# Altium schematic symbol library Passive.SchLib: 38 symbols
Pins are listed as number, name and electrical type; pins without a type are passive.

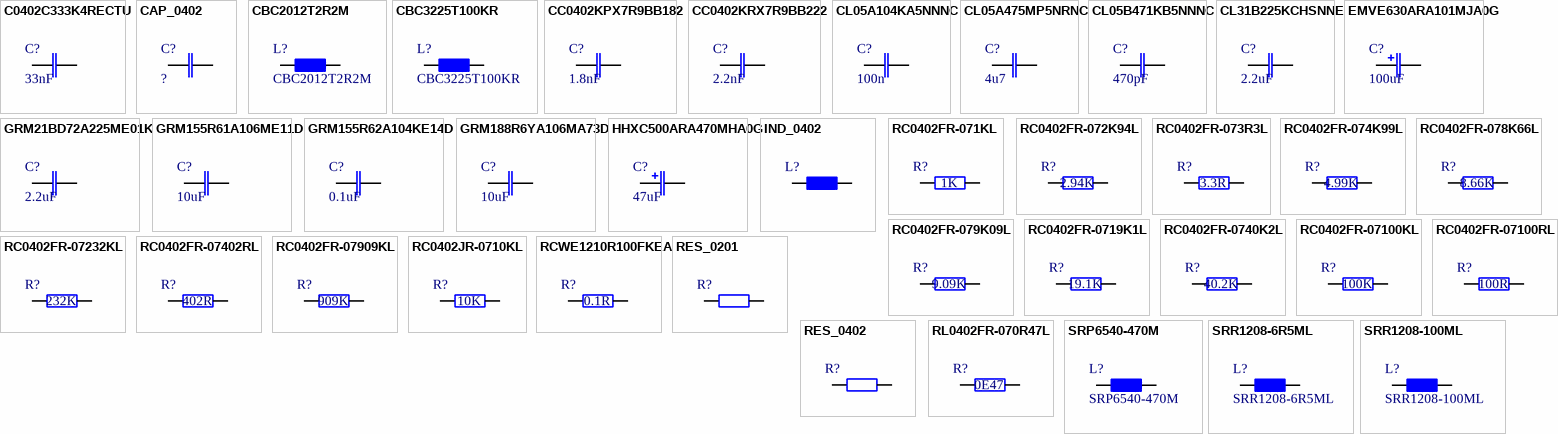
[diagram p0: symbols C0402C333K4RECTU to SRR1208-100ML]

## C0402C333K4RECTU
designator C?, comment 33nF
MPN: C0402C333K4RECTU; MaxVoltage: 16; Value: 33nF
footprint CAP0402 (Chip Capacitor, 2-Leads, Body 1.00x0.50mm, IPC Medium Density)
pins: 1, 2

## CAP_0402
designator C?, comment ?
Value: ?
footprint CAP0402 (Chip Capacitor, 2-Leads, Body 1.00x0.50mm, IPC Medium Density)
pins: 1, 2

## CBC2012T2R2M
designator L?
Value: CBC2012T2R2M; MPN: CBC2012T2R2M
footprint INDC0805 (Chip Inductor, 2-Leads, Body 2.00x1.25mm, IPC Medium Density, CBC2012T2R2M)
pins: 1, 2

## CBC3225T100KR
designator L?
10 µH Halbgeschirmt Trommelkern, drahtgewickelt Induktor 900 mA 172,9mOhm max. 1210 (3225 metrisch); Value: 10uH
footprint IND1210 (Chip Inductor, 2-Leads, Body 3.20x2.50mm, IPC Medium Density)
pins: 1, 2

## CC0402KPX7R9BB182
designator C?, comment 1.8nF
MPN: CC0402KPX7R9BB182; MaxVoltage: 50V; Value: 1.8nF
footprint CAP0402 (Chip Capacitor, 2-Leads, Body 1.00x0.50mm, IPC Medium Density)
pins: 1, 2

## CC0402KRX7R9BB222
designator C?, comment 2.2nF
MPN: CC0402KRX7R9BB222; MaxVoltage: 50V; Value: 2.2nF
footprint CAP0402 (Chip Capacitor, 2-Leads, Body 1.00x0.50mm, IPC Medium Density)
pins: 1, 2

## CL05A104KA5NNNC
designator C?, comment 100n
MPN: CL05A104KA5NNNC; MaxVoltage: 25V; Dialectric: X5R; Tolerance: 10%; Value: 100n
footprint CAP0402 (Chip Capacitor, 2-Leads, Body 1.00x0.50mm, IPC Medium Density)
pins: 1, 2

## CL05A475MP5NRNC
designator C?, comment 4u7
MPN: CL05A475MP5NRNC; MaxVoltage: 10V; Dialectric: X5R; Tolerance: 20%; Value: 4u7
footprint CAP0402 (Chip Capacitor, 2-Leads, Body 1.00x0.50mm, IPC Medium Density)
pins: 1, 2

## CL05B471KB5NNNC
designator C?, comment 470pF
MPN: CL05B471KB5NNNC; MaxVoltage: 50V; Value: 470pF
footprint CAP0402 (Chip Capacitor, 2-Leads, Body 1.00x0.50mm, IPC Medium Density)
pins: 1, 2

## CL31B225KCHSNNE
designator C?, comment 2.2uF
MPN: CL31B225KCHSNNE; MaxVoltage: 100V; Value: 2.2uF
footprint CAP1206 (Chip Capacitor, 2-Leads, Body 3.20x1.60mm, IPC Medium Density)
pins: 1, 2

## EMVE630ARA101MJA0G
designator C?, comment 100uF
MPN: EMVE630ARA101MJA0G; MaxVoltage: 63V; Value: 100uF
footprint CHEMICON_D10H10_JA0
pins: 1, 2

## GRM21BD72A225ME01K
designator C?, comment 2.2uF
0805; MPN: GRM21BD72A225ME01K; MaxVoltage: 100V; Value: 2.2uF
footprint CAP0805 (Chip Capacitor, 2-Leads, Body 2.00x1.25mm, IPC Medium Density)
pins: 1, 2

## GRM155R61A106ME11D
designator C?, comment 10uF
MPN: CC0402KRX7R9BB222; MaxVoltage: 50V; Value: 10uF
footprint CAP0402 (Chip Capacitor, 2-Leads, Body 1.00x0.50mm, IPC Medium Density)
pins: 1, 2

## GRM155R62A104KE14D
designator C?, comment 0.1uF
0805; MPN: GRM155R62A104KE14D; MaxVoltage: 100V; Value: 0.1uF
footprint CAP0402 (Chip Capacitor, 2-Leads, Body 1.00x0.50mm, IPC Medium Density)
pins: 1, 2

## GRM188R6YA106MA73D
designator C?, comment 10uF
MPN: CL05A475MP5NRNC; MaxVoltage: 10V; Dialectric: X5R; Tolerance: 20%; Value: 10uF
footprint CAP0603 (Chip Capacitor, 2-Leads, Body 1.60x0.80mm, IPC Medium Density)
pins: 1, 2

## HHXC500ARA470MHA0G
designator C?, comment 47uF
MPN: HHXC500ARA470MHA0G; MaxVoltage: 50V; Value: 47uF
footprint CHEMICON_KOND_D8H10
pins: 1, 2

## IND_0402
designator L?
footprint IND0402 (Chip Inductor, 2-Leads, Body 1.00x0.50mm, IPC Medium Density)
pins: 1, 2

## RC0402FR-071KL
designator R?  (value not drawn)
Value: 1K
footprint RES0402 (Chip Resistor, 2-Leads, Body 1.00x0.50mm, IPC Medium Density)
pins: 1, 2

## RC0402FR-072K94L
designator R?  (value not drawn)
Value: 2.94K
footprint RES0402 (Chip Resistor, 2-Leads, Body 1.00x0.50mm, IPC Medium Density)
pins: 1, 2

## RC0402FR-073R3L
designator R?  (value not drawn)
Value: 3.3R
footprint RES0402 (Chip Resistor, 2-Leads, Body 1.00x0.50mm, IPC Medium Density)
pins: 1, 2

## RC0402FR-074K99L
designator R?  (value not drawn)
Value: 4.99K
footprint RES0402 (Chip Resistor, 2-Leads, Body 1.00x0.50mm, IPC Medium Density)
pins: 1, 2

## RC0402FR-078K66L
designator R?  (value not drawn)
Value: 8.66K
footprint RES0402 (Chip Resistor, 2-Leads, Body 1.00x0.50mm, IPC Medium Density)
pins: 1, 2

## RC0402FR-079K09L
designator R?  (value not drawn)
Value: 9.09K
footprint RES0402 (Chip Resistor, 2-Leads, Body 1.00x0.50mm, IPC Medium Density)
pins: 1, 2

## RC0402FR-0719K1L
designator R?  (value not drawn)
Value: 19.1K
footprint RES0402 (Chip Resistor, 2-Leads, Body 1.00x0.50mm, IPC Medium Density)
pins: 1, 2

## RC0402FR-0740K2L
designator R?  (value not drawn)
Value: 40.2K
footprint RES0402 (Chip Resistor, 2-Leads, Body 1.00x0.50mm, IPC Medium Density)
pins: 1, 2

## RC0402FR-07100KL
designator R?  (value not drawn)
Value: 100K
footprint RES0402 (Chip Resistor, 2-Leads, Body 1.00x0.50mm, IPC Medium Density)
pins: 1, 2

## RC0402FR-07100RL
designator R?  (value not drawn)
Value: 100R
footprint RES0402 (Chip Resistor, 2-Leads, Body 1.00x0.50mm, IPC Medium Density)
pins: 1, 2

## RC0402FR-07232KL
designator R?  (value not drawn)
Value: 232K
footprint RES0402 (Chip Resistor, 2-Leads, Body 1.00x0.50mm, IPC Medium Density)
pins: 1, 2

## RC0402FR-07402RL
designator R?  (value not drawn)
Value: 402R
footprint RES0402 (Chip Resistor, 2-Leads, Body 1.00x0.50mm, IPC Medium Density)
pins: 1, 2

## RC0402FR-07909KL
designator R?  (value not drawn)
Value: 909K
footprint RES0402 (Chip Resistor, 2-Leads, Body 1.00x0.50mm, IPC Medium Density)
pins: 1, 2

## RC0402JR-0710KL
designator R?, comment 10K  (value not drawn)
MPN: RC0402JR-0710KL; Power: 0.063W; Tolerance: 5%; Value: 10K
footprint RES0402 (Chip Resistor, 2-Leads, Body 1.00x0.50mm, IPC Medium Density)
pins: 1, 2

## RCWE1210R100FKEA
designator R?  (value not drawn)
Value: 0.1R
footprint RES1210 (Chip Resistor, 2-Leads, Body 3.10x2.50mm, IPC Medium Density)
pins: 1, 2

## RES_0201
designator R?
footprint RES0201 (Chip Resistor, 2-Leads, Body 0.60x0.30mm, IPC Medium Density)
pins: 1, 2

## RES_0402
designator R?
footprint RES0402 (Chip Resistor, 2-Leads, Body 1.00x0.50mm, IPC Medium Density)
pins: 1, 2

## RL0402FR-070R47L
designator R?, comment 0E47  (value not drawn)
MPN: RL0402FR-070R47L; Power: 0.063W; Tolerance: 1%; Value: 0E47
footprint RES0402 (Chip Resistor, 2-Leads, Body 1.00x0.50mm, IPC Medium Density)
pins: 1, 2

## SRP6540-470M
designator L?
footprint SRP6540 (Precision Wire Wound Inductor, 2-Leads, Body 7.20x6.50mm, IPC Medium Density)
pins: 1, 2

## SRR1208-6R5ML
designator L?
footprint SRR1208 (Precision Wire Wound Inductor, 2-Leads, Body 12.70x12.70mm, IPC Medium Density)
pins: 1, 2

## SRR1208-100ML
designator L?
footprint SRR1208 (Precision Wire Wound Inductor, 2-Leads, Body 12.70x12.70mm, IPC Medium Density)
pins: 1, 2